# Altium schematic symbol library EEE-TG1J100P.SchLib: 1 symbol
Pins are listed as number, name and electrical type; pins without a type are passive.

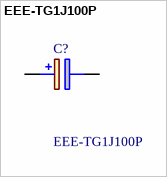
[diagram p0: symbol EEE-TG1J100P]

## EEE-TG1J100P
designator C?
Aluminum Electrolytic Capacitors - SMD Al Lytic Cap SMT TG Series 125C; Manufacturer_Name: Panasonic; Geometry.Height: 6.5mm; Mouser Part Number: 667-EEE-TG1J100P; Mouser Price/Stock: https://www.mouser.co.uk/ProductDetail/Panasonic/EEE-TG1J100P?qs=aAAGLDy8P2x3htHP%2FTxLDQ%3D%3D; Manufacturer_Part_Number: EEE-TG1J100P; Datasheet Link: http://industrial.panasonic.com/cdbs/www-data/pdf/RDE0000/ABA0000C1187.pdf
footprint CAPAE830X650N
pins: 1 +, 2 -